# EAGLE library part 74HC4051N,652 (library NXP_By_element14_Batch_1)
8-channel analog multiplexer/demultiplexer
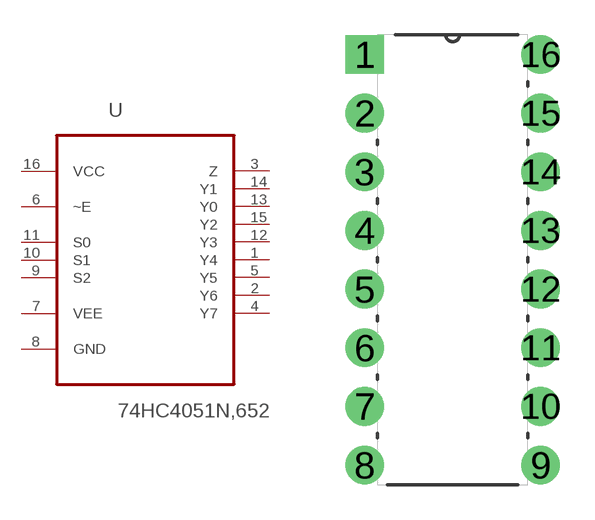
[diagram p103: symbol with the pads of DIP254P762X420-16; footprint DIP254P762X420-16]

Designator prefix U

## 74HC4051N,652 (MPN: 74HC4051N,652; OC_FARNELL: 1826793; OC_NEWARK: 71R2508; P1I: o; PACKAGE: DIP-16; SUPPLIER: NXP)  [DIP254P762X420-16]
1  Y4
2  Y6
3  Z
4  Y7
5  Y5
6  ~E  in
7  VEE  pwr
8  GND  pas
9  S2  in
10  S1  in
11  S0  in
12  Y3
13  Y0
14  Y1
15  Y2
16  VCC  pwr

## Footprint DIP254P762X420-16 (pad centres in mm)
drill 1.118 square: 1 -7.62,17.78
drill 1.118: 2 -7.62,15.24; 3 -7.62,12.7; 4 -7.62,10.16; 5 -7.62,7.62; 6 -7.62,5.08; 7 -7.62,2.54; 8 -7.62,0; 9 0,0; 10 0,2.54; 11 0,5.08; 12 0,7.62; 13 0,10.16; 14 0,12.7; 15 0,15.24; 16 0,17.78